# Altium schematic symbol library U_AP2125N.SchLib: 1 symbol
Pins are listed as number, name and electrical type; pins without a type are passive.

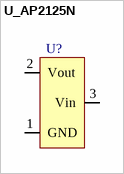
[diagram p0: symbol U_AP2125N]

## U_AP2125N
designator U?
pins: 1 GND, 2 Vout, 3 Vin